# Altium footprint library Mosfet_Gate_Drivers_Pcb.PcbLib: 6 footprints
Each footprint in its own frame and in the unit in brackets; x right, y up, seen from the top. Pads: shape width x height; smd on the part's side, far side on the other; paste and mask are expansions set on the pad; w line width, h text height; cw(c..) or ccw(c..) is an arc to the next point about the centre after c.
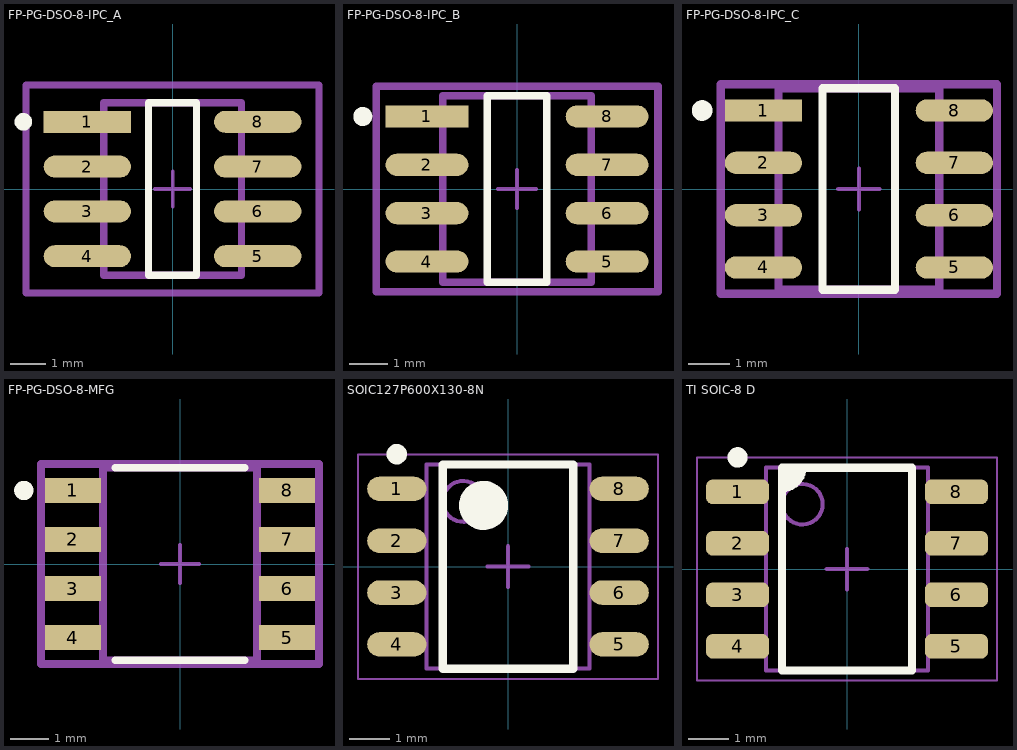
[diagram p0: the footprints below, top view; thin cyan lines are the x and y axes]

## FP-PG-DSO-8-IPC_A [mm]
pads (8):
  rect 2.474x0.622 smd paste+0 mask+0: 1(-2.416,1.905)
  rrect100% 2.474x0.622 smd paste+0 mask+0: 2(-2.416,0.635) 3(-2.416,-0.635) 4(-2.416,-1.905) 5(2.416,-1.905) 6(2.416,-0.635) 7(2.416,0.635) 8(2.416,1.905)
Top Overlay:
  circle w0.25: c-4.228,1.905 r0.125
  lines w0.2: -0.679,-2.445 0.679,-2.445 0.679,2.445 -0.679,2.445 -0.679,-2.445
Mechanical 5:
  lines w0.2: -4.153,-2.945 4.153,-2.945 4.153,2.945 -4.153,2.945 -4.153,-2.945
  text ".Designator" at 0,0.188 h1
Mechanical 13:
  lines w0.2: -1.95,-2.445 1.95,-2.445 1.95,2.445 -1.95,2.445 -1.95,-2.445
Mechanical 15:
  lines w0.2: -4.153,-2.945 4.153,-2.945 4.153,2.945 -4.153,2.945 -4.153,-2.945
Mechanical 16:
  lines w0.1: -0.5,0 0.5,0 ; 0,-0.5 0,0.5
3D body "IC_Infineon_IR21531SPBF_eec.STEP": height 0.25, standoff 0, extent -4.153,-2.945 4.153,2.945

## FP-PG-DSO-8-IPC_B [mm]
pads (8):
  rect 2.174x0.582 smd paste+0 mask+0: 1(-2.366,1.905)
  rrect100% 2.174x0.582 smd paste+0 mask+0: 2(-2.366,0.635) 3(-2.366,-0.635) 4(-2.366,-1.905) 5(2.366,-1.905) 6(2.366,-0.635) 7(2.366,0.635) 8(2.366,1.905)
Top Overlay:
  circle w0.25: c-4.053,1.905 r0.125
  lines w0.2: -0.779,-2.445 0.779,-2.445 0.779,2.445 -0.779,2.445 -0.779,-2.445
Mechanical 5:
  lines w0.2: -3.703,-2.695 3.703,-2.695 3.703,2.695 -3.703,2.695 -3.703,-2.695
  text ".Designator" at 0,0.188 h1
Mechanical 13:
  lines w0.2: -1.95,-2.445 1.95,-2.445 1.95,2.445 -1.95,2.445 -1.95,-2.445
Mechanical 15:
  lines w0.2: -3.703,-2.695 3.703,-2.695 3.703,2.695 -3.703,2.695 -3.703,-2.695
Mechanical 16:
  lines w0.1: -0.5,0 0.5,0 ; 0,-0.5 0,0.5
3D body "IC_Infineon_IR21531SPBF_eec.STEP": height 0.25, standoff 0, extent -3.703,-2.695 3.703,2.695

## FP-PG-DSO-8-IPC_C [mm]
pads (8):
  rect 1.874x0.542 smd paste+0 mask+0: 1(-2.316,1.905)
  rrect100% 1.874x0.542 smd paste+0 mask+0: 2(-2.316,0.635) 3(-2.316,-0.635) 4(-2.316,-1.905) 5(2.316,-1.905) 6(2.316,-0.635) 7(2.316,0.635) 8(2.316,1.905)
Top Overlay:
  circle w0.25: c-3.803,1.905 r0.125
  lines w0.2: -0.879,-2.445 -0.879,2.445 0.879,2.445 0.879,-2.445 -0.879,-2.445
Mechanical 5:
  lines w0.2: -3.353,-2.545 -3.353,2.545 3.353,2.545 3.353,-2.545 -3.353,-2.545
  text ".Designator" at 0,0.188 h1
Mechanical 13:
  lines w0.2: -1.95,-2.445 -1.95,2.445 1.95,2.445 1.95,-2.445 -1.95,-2.445
Mechanical 15:
  lines w0.2: -3.353,-2.545 -3.353,2.545 3.353,2.545 3.353,-2.545 -3.353,-2.545
Mechanical 16:
  lines w0.1: -0.5,0 0.5,0 ; 0,-0.5 0,0.5
3D body "IC_Infineon_IR21531SPBF_eec.STEP": height 0.25, standoff 0, extent -3.353,-2.545 3.353,2.545

## FP-PG-DSO-8-MFG [mm]
pads (8):
  rect 1.45x0.65 smd paste+0 mask+0: 1(-2.775,1.905) 2(-2.775,0.635) 3(-2.775,-0.635) 4(-2.775,-1.905) 5(2.775,-1.905) 6(2.775,-0.635) 7(2.775,0.635) 8(2.775,1.905)
Top Overlay:
  circle w0.25: c-4.045,1.905 r0.125
  lines w0.2: -1.675,-2.49 1.675,-2.49 ; -1.675,2.49 1.675,2.49
Mechanical 5:
  lines w0.2: -3.6,-2.59 -3.6,2.59 3.6,2.59 3.6,-2.59 -3.6,-2.59
  text ".Designator" at 0,0.188 h1
Mechanical 13:
  lines w0.2: -1.995,-2.49 -1.995,2.49 1.995,2.49 1.995,-2.49 -1.995,-2.49
Mechanical 15:
  lines w0.2: -3.6,-2.59 -3.6,2.59 3.6,2.59 3.6,-2.59 -3.6,-2.59
Mechanical 16:
  lines w0.1: -0.5,0 0.5,0 ; 0,-0.5 0,0.5
3D body "IC_Infineon_IR21531SPBF_eec.STEP": height 0.25, standoff 0, extent -3.6,-2.59 3.6,2.59

## SOIC127P600X130-8N [mm] "SOIC, 8-Leads, Body 5,00x4,00mm, Pitch 1,27mm, IPC Medium Density"
height 1.3
pads (8):
  oval 1.45x0.6 smd: 1(-2.725,1.905) 2(-2.725,0.635) 3(-2.725,-0.635) 4(-2.725,-1.905) 5(2.725,-1.905) 6(2.725,-0.635) 7(2.725,0.635) 8(2.725,1.905)
Top Overlay:
  circle w0.6: c-0.6,1.5 r0.3
  circle w0.25: c-2.725,2.755 r0.125
  lines w0.2: -1.6,-2.5 1.6,-2.5 1.6,2.5 -1.6,2.5 -1.6,-2.5
Mechanical 13:
  circle w0.1: c-1.1,1.6 r0.5
  lines w0.1: -2,-2.5 2,-2.5 2,2.5 -2,2.5 -2,-2.5
  text ".Designator" at -1.85,-2.071 h1.5
Mechanical 15:
  lines w0.05: -3.675,-2.75 3.675,-2.75 3.675,2.75 -3.675,2.75 -3.675,-2.75
  lines w0.1: -0.5,0 0.5,0 ; 0,-0.5 0,0.5
3D body "SOIC127P600X130-8N.step": height 1.3, standoff 0, extent -3,-2.5 3,2.5

## TI SOIC-8 D [mm] "SOP, 8-Leads, Body 4.90x3.90mm, Pitch 1.27mm, IPC Medium Density"
height 1.75
pads (8):
  rrect50% 1.55x0.6 smd: 1(-2.7,1.905) 2(-2.7,0.635) 3(-2.7,-0.635) 4(-2.7,-1.905) 5(2.7,-1.905) 6(2.7,-0.635) 7(2.7,0.635) 8(2.7,1.905)
Top Overlay:
  circle w0.25: c-2.7,2.755 r0.125
  region: -1.6,2.5 -1.6,2 -1.4,2 -1.1,2.3 -1.1,2.5
  lines w0.2: -1.6,2 ccw(c-1.6,2.5) -1.1,2.5 ; -1.6,-2.5 -1.6,2.5 1.6,2.5 1.6,-2.5 -1.6,-2.5
Mechanical 13:
  circle w0.1: c-1.1,1.6 r0.5
  lines w0.1: -2,-2.5 -2,2.5 2,2.5 2,-2.5 -2,-2.5
Mechanical 15:
  lines w0.05: -3.7,-2.75 -3.7,2.75 3.7,2.75 3.7,-2.75 -3.7,-2.75
  lines w0.1: -0.5,0 0.5,0 ; 0,-0.5 0,0.5
3D body "SO-8.STEP": height 1.5, standoff 0, extent -3.014,-2.45 3.014,2.45